# Altium footprint library JST_S4B-XH-A-1.PcbLib: 1 footprints
Each footprint in its own frame and in the unit in brackets; x right, y up, seen from the top. Pads: shape width x height; smd on the part's side, far side on the other; paste and mask are expansions set on the pad; w line width, h text height; cw(c..) or ccw(c..) is an arc to the next point about the centre after c.
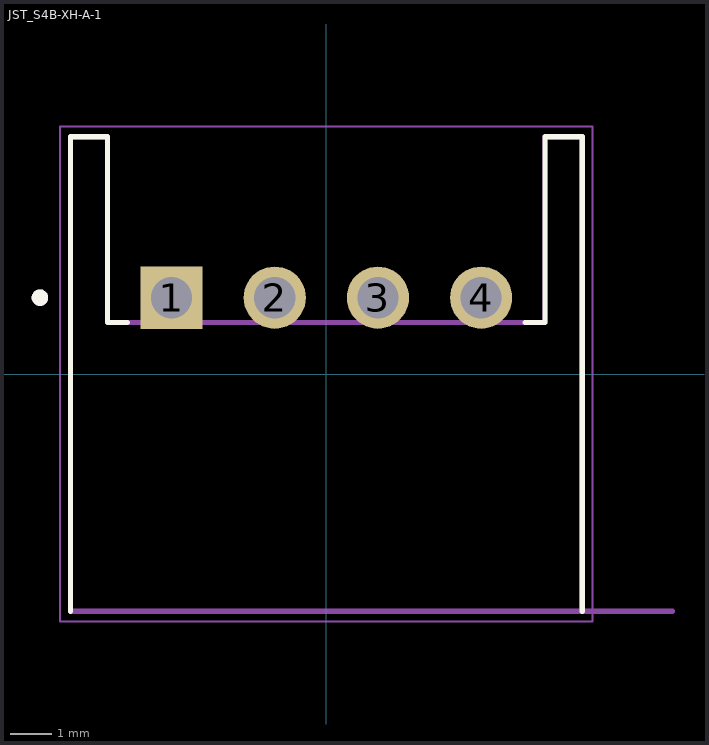
[diagram p0: the footprint, top view; thin cyan lines are the x and y axes]

## JST_S4B-XH-A-1 [mm]
height 6.1
pads (4):
  rect 1.508x1.508 / inner round 1.508 / far side rect 1.508x1.508 hole 1: 1(-3.75,1.85)
  round 1.508 hole 1: 2(-1.25,1.85) 3(1.25,1.85) 4(3.75,1.85)
Top Overlay:
  circle w0.2: c-6.94,1.85 r0.1
  lines w0.127: -6.2,-5.75 -6.2,5.75 -5.3,5.75 -5.3,1.25 -4.82,1.25 ; 4.82,1.25 5.3,1.25 5.3,5.75 6.2,5.75 6.2,-5.75
Mechanical 13:
  circle w0.2: c-6.94,1.85 r0.1
  lines w0.127: 8.38,-5.75 6.2,-5.75 ; 6.2,-5.75 -6.2,-5.75 -6.2,5.75 -5.3,5.75 -5.3,1.25 5.3,1.25 5.3,5.75 6.2,5.75 6.2,-5.75
  text "PCB Edge" at 6.667,-5.453 h0.81
Mechanical 15:
  lines w0.05: -6.45,-6 -6.45,6 6.45,6 6.45,-6 -6.45,-6
3D body "step_temp.STEP": height 6.1, standoff -3.4, extent -6.2,-5.75 6.2,5.75